# EAGLE library part TJA1021 (library comma.ai)
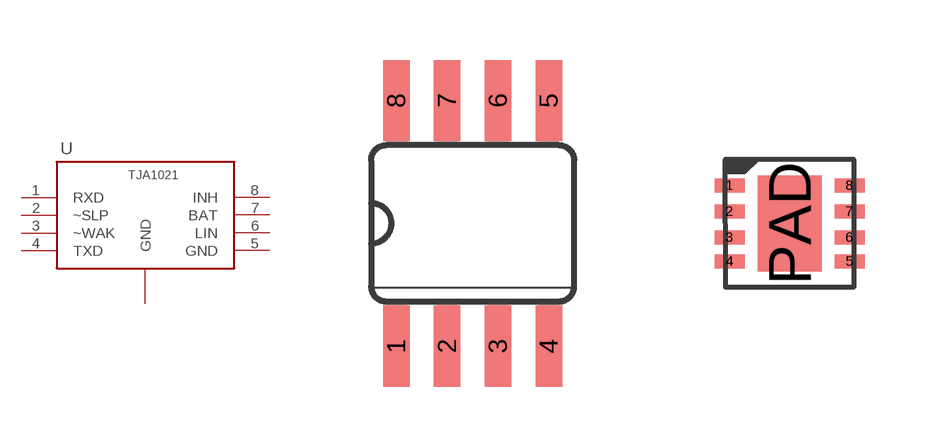
[diagram p3: symbol with the pads of SO08; footprints SO08, HVSON8]

Designator prefix U

## TJA1021SO8  [SO08]
1  RXD
2  ~SLP
3  ~WAK
4  TXD
5  GND
6  LIN
7  BAT
8  INH

## TJA1021  [HVSON8]
1  RXD
2  ~SLP
3  ~WAK
4  TXD
5  GND
6  LIN
7  BAT
8  INH
PAD  GND

## Footprint SO08 (pad centres in mm)
smd 0.66 x 2.032: 1 -1.905,-3.073; 2 -0.635,-3.073; 3 0.635,-3.073; 4 1.905,-3.073; 5 1.905,3.073; 6 0.635,3.073; 7 -0.635,3.073; 8 -1.905,3.073

## Footprint HVSON8 (pad centres in mm)
smd 0.75 x 0.35: 1 -1.5,0.95; 2 -1.5,0.3; 3 -1.5,-0.35; 4 -1.5,-0.95; 5 1.5,-0.95; 6 1.5,-0.35; 7 1.5,0.3; 8 1.5,0.95
smd 1.6 x 2.4: PAD 0,0